# Altium footprint library eagle-ltspice.PCBLIB: 60 footprints (part 3 of 4)
Each footprint in its own frame and in the unit in brackets; x right, y up, seen from the top. Pads: shape width x height; smd on the part's side, far side on the other; paste and mask are expansions set on the pad; w line width, h text height; cw(c..) or ccw(c..) is an arc to the next point about the centre after c.
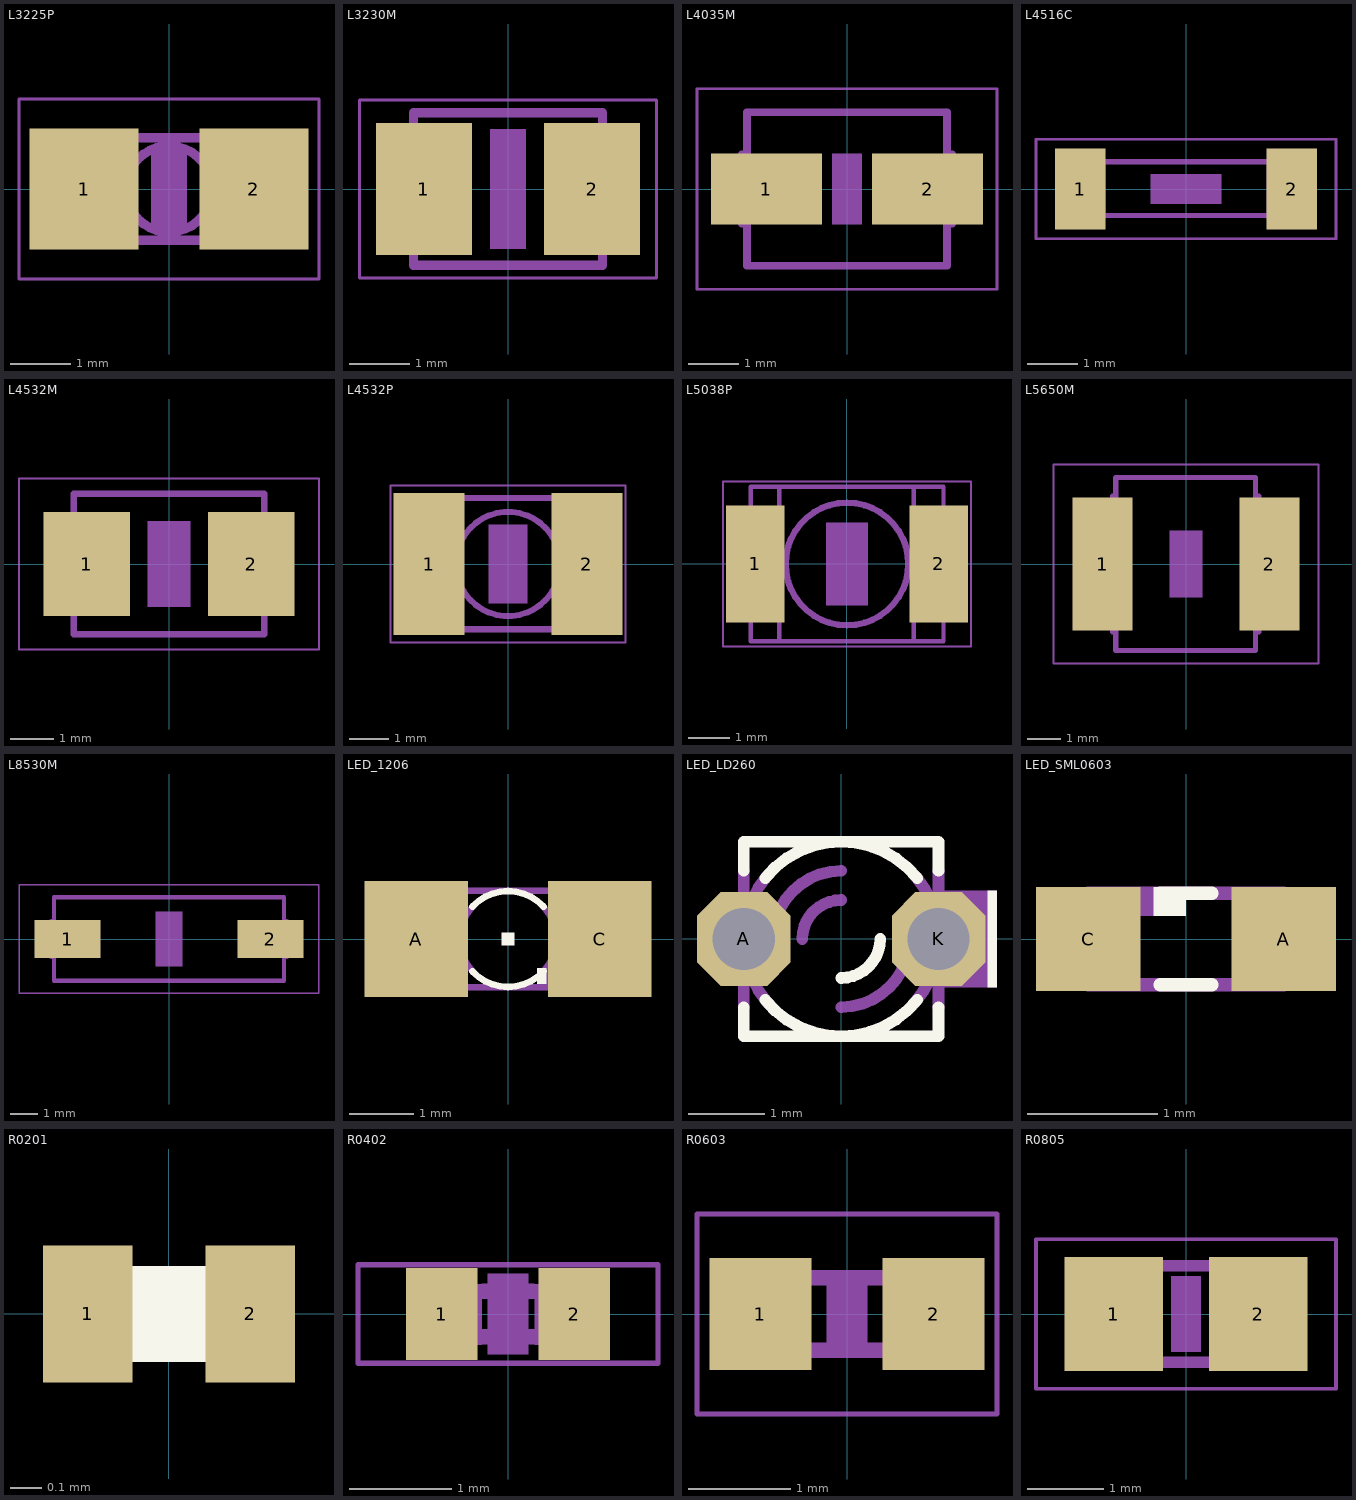
[diagram p2: the footprints below, top view; thin cyan lines are the x and y axes]

## L3225P [mm]
pads (2):
  rect 1.8x2 smd: 1(-1.4,0) 2(1.4,0)
Mechanical 6:
  rectangle: -0.3,-0.7 0.3,0.7
Mechanical 16:
  circle w0.152: c0,0 r0.712
  lines w0.152: -1.676,-0.845 1.676,-0.845 ; -1.676,-0.838 -1.676,0.838 ; -1.676,0.845 1.676,0.845 ; -1.168,-0.838 -1.168,0.838 ; 1.168,-0.838 1.168,0.838 ; 1.676,-0.838 1.676,0.838
Mechanical 27:
  lines w0.051: -2.473,-1.483 2.473,-1.483 2.473,1.483 -2.473,1.483 -2.473,-1.483

## L3230M [mm]
pads (2):
  rect 1.6x2.2 smd: 1(-1.4,0) 2(1.4,0)
Mechanical 6:
  rectangle: -0.3,-1 0.3,1
Mechanical 16:
  lines w0.152: -1.651,-0.94 -1.651,0.94 ; 1.651,-0.94 1.651,0.94 ; -1.575,-1.27 1.575,-1.27 1.575,1.27 -1.575,1.27 -1.575,-1.27
Mechanical 27:
  lines w0.051: -2.473,-1.483 2.473,-1.483 2.473,1.483 -2.473,1.483 -2.473,-1.483

## L4035M [mm]
pads (2):
  rect 2.2x1.4 smd: 1(-1.6,0) 2(1.6,0)
Mechanical 6:
  rectangle: -0.3,-0.7 0.3,0.7
Mechanical 16:
  lines w0.152: -2.083,-0.686 -2.083,0.686 ; 2.083,-0.686 2.083,0.686 ; -1.981,-1.524 -1.981,1.524 1.981,1.524 1.981,-1.524 -1.981,-1.524
Mechanical 27:
  lines w0.051: -2.973,-1.983 2.973,-1.983 2.973,1.983 -2.973,1.983 -2.973,-1.983

## L4516C [mm]
pads (2):
  rect 1x1.6 smd: 1(-2.1,0) 2(2.1,0)
Mechanical 6:
  rectangle: -0.7,-0.3 0.7,0.3
Mechanical 16:
  rectangle: -2.4,-0.597 -1.6,0.603
  rectangle: 1.6,-0.603 2.4,0.597
  lines w0.102: -1.626,-0.527 1.626,-0.527 ; -1.626,0.54 1.626,0.54
Mechanical 27:
  lines w0.051: -2.973,-0.983 2.973,-0.983 2.973,0.983 -2.973,0.983 -2.973,-0.983

## L4532M [mm]
pads (2):
  rect 2x2.4 smd: 1(-1.9,0) 2(1.9,0)
Mechanical 6:
  rectangle: -0.5,-1 0.5,1
Mechanical 16:
  lines w0.152: -2.337,-1.041 -2.337,1.041 ; 2.337,-1.041 2.337,1.041 ; -2.21,-1.626 2.21,-1.626 2.21,1.626 -2.21,1.626 -2.21,-1.626
Mechanical 27:
  lines w0.051: -3.473,-1.983 3.473,-1.983 3.473,1.983 -3.473,1.983 -3.473,-1.983

## L4532P [mm]
pads (2):
  rect 1.8x3.6 smd: 1(-2,0) 2(2,0)
Mechanical 6:
  rectangle: -0.5,-1 0.5,1
Mechanical 16:
  circle w0.152: c0,0 r1.321
  lines w0.152: -2.311,-1.653 2.311,-1.653 ; -2.311,-1.626 -2.311,1.626 ; -2.311,1.675 2.311,1.675 2.311,-1.626 ; -1.448,-1.626 -1.448,1.651 ; 1.448,-1.626 1.448,1.626
Mechanical 27:
  lines w0.051: -2.973,-1.983 2.973,-1.983 2.973,1.983 -2.973,1.983 -2.973,-1.983

## L5038P [mm]
pads (2):
  rect 1.4x2.8 smd: 1(-2.2,0) 2(2.2,0)
Mechanical 6:
  rectangle: -0.5,-1 0.5,1
Mechanical 16:
  circle w0.152: c0,0 r1.473
  lines w0.102: -2.386,-1.27 -2.386,1.27 ; -2.31,-1.854 -2.31,1.854 ; -2.286,-1.856 2.311,-1.856 ; -2.286,1.853 2.311,1.853 ; -1.624,-1.854 -1.624,1.854 ; 1.602,-1.854 1.602,1.854 ; 2.313,-1.854 2.313,1.854 ; 2.389,-1.27 2.389,1.27
Mechanical 27:
  lines w0.051: -2.973,-1.983 2.973,-1.983 2.973,1.983 -2.973,1.983 -2.973,-1.983

## L5650M [mm]
pads (2):
  rect 1.8x4 smd: 1(-2.5,0) 2(2.5,0)
Mechanical 6:
  rectangle: -0.5,-1 0.5,1
Mechanical 16:
  lines w0.152: -2.21,-2.032 -2.21,2.032 ; 2.184,-2.032 2.184,2.032 ; -2.108,-2.591 2.083,-2.591 2.083,2.591 -2.108,2.591 -2.108,-2.591
Mechanical 27:
  lines w0.051: -3.973,-2.983 3.973,-2.983 3.973,2.983 -3.973,2.983 -3.973,-2.983

## L8530M [mm]
pads (2):
  rect 2.4x1.4 smd: 1(-3.7,0) 2(3.7,0)
Mechanical 6:
  rectangle: -0.5,-1 0.5,1
Mechanical 16:
  lines w0.152: -4.293,-0.66 -4.293,0.66 ; 4.293,-0.66 4.293,0.66 ; -4.191,-1.524 -4.191,1.524 4.191,1.524 4.191,-1.524 -4.191,-1.524
Mechanical 27:
  lines w0.051: -5.473,-1.983 5.473,-1.983 5.473,1.983 -5.473,1.983 -5.473,-1.983

## LED_1206 [mm]
pads (2):
  rect 1.6x1.803 smd: A(-1.422,0) C(1.422,0)
Top Overlay:
  rectangle: -0.1,-0.1 0.1,0.1
  rectangle: 0.45,-0.7 0.6,-0.45
  lines w0.102: -0.55,-0.5 ccw(c0,0) 0.55,-0.5 ; -0.55,0.5 cw(c0,0) 0.55,0.5
Mechanical 16:
  rectangle: 0.45,-0.7 0.8,-0.45
  rectangle: 0.8,-0.7 0.9,0.5
  rectangle: 0.8,0.55 0.9,0.7
  rectangle: -0.9,-0.7 -0.8,0.5
  rectangle: -0.9,0.55 -0.8,0.7
  lines w0.102: -0.55,-0.5 cw(c0,0) -0.55,0.5 ; 0.55,-0.5 ccw(c0,0) 0.55,0.5 ; -1.55,-0.75 1.55,-0.75 1.55,0.75 -1.55,0.75 -1.55,-0.75

## LED_LD260 [mil]
pads (2):
  oct 48x48 hole 32: A(-50,0) K(50,0)
Top Overlay:
  rectangle: 75,-25 80,25
  lines w6: -50,-35 -50,-50 0,-50 ; -50,35 -50,50 0,50 ; -39.04,-31.24 ccw(c0,-0.01) 0,-50 ; -39.04,31.24 cw(c0,0.01) 0,50 ; 0,-20 ccw(c0,0) 20,0 ; 39.04,-31.24 cw(c0,-0.01) 0,-50 ; 39.04,31.24 ccw(c0,0.01) 0,50 ; 50,-35 50,-50 0,-50 ; 50,35 50,50 0,50
Mechanical 16:
  rectangle: 50,-25 80,25
  lines w6: -50,-35 -50,0 ; -50,35 -50,0 ; -37.96,-32.54 cw(c0,0) -50,0 ; -37.96,32.54 ccw(c0,0) -50,0 ; -35,0 cw(c0,0) 0,35 ; -20,0 cw(c0,0) 0,20 ; 0,-35 ccw(c0,0) 35,0 ; 37.63,-32.93 ccw(c-0.01,0) 50,0 ; 38.41,32.01 cw(c0,0) 50,0 ; 50,-35 50,0 ; 50,35 50,0

## LED_SML0603 [mil]
pads (2):
  rect 31.5x31.5 smd: A(29.53,0) C(-29.53,0)
Top Overlay:
  rectangle: -9.84,6.89 0,15.75
  lines w4: -7.87,-13.78 7.87,-13.78 ; -7.87,13.78 7.87,13.78
Mechanical 16:
  rectangle: -15.75,6.89 0,15.75
  lines w4: -17.72,-11.81 -17.72,11.81 ; 17.72,-11.81 17.72,11.81 ; -29.53,-13.78 29.53,-13.78 29.53,13.78 -29.53,13.78 -29.53,-13.78

## R0201 [mm]
pads (2):
  rect 0.28x0.43 smd: 1(-0.255,0) 2(0.255,0)
Top Overlay:
  rectangle: -0.15,-0.15 0.15,0.15
Mechanical 16:
  rectangle: -0.3,-0.15 -0.15,0.15
  rectangle: 0.15,-0.15 0.3,0.15

## R0402 [mm]
pads (2):
  rect 0.7x0.9 smd: 1(-0.65,0) 2(0.65,0)
Mechanical 6:
  rectangle: -0.2,-0.4 0.2,0.4
Mechanical 16:
  rectangle: -0.554,-0.305 -0.254,0.295
  rectangle: 0.259,-0.305 0.559,0.295
  lines w0.152: -0.245,-0.224 0.245,-0.224 ; -0.245,0.224 0.245,0.224
Mechanical 27:
  lines w0.051: -1.473,-0.483 1.473,-0.483 1.473,0.483 -1.473,0.483 -1.473,-0.483

## R0603 [mm]
pads (2):
  rect 1x1.1 smd: 1(-0.85,0) 2(0.85,0)
Mechanical 6:
  rectangle: -0.2,-0.4 0.2,0.4
Mechanical 16:
  rectangle: 0.432,-0.432 0.838,0.432
  rectangle: -0.838,-0.432 -0.432,0.432
  lines w0.152: -0.432,-0.356 0.432,-0.356 ; -0.432,0.356 0.432,0.356
Mechanical 27:
  lines w0.051: -1.473,-0.983 1.473,-0.983 1.473,0.983 -1.473,0.983 -1.473,-0.983

## R0805 [mm]
pads (2):
  rect 1.3x1.5 smd: 1(-0.95,0) 2(0.95,0)
Mechanical 6:
  rectangle: -0.2,-0.5 0.2,0.5
Mechanical 16:
  rectangle: 0.406,-0.699 1.056,0.702
  rectangle: -1.067,-0.699 -0.417,0.702
  lines w0.152: -0.41,-0.635 0.41,-0.635 ; -0.41,0.635 0.41,0.635
Mechanical 27:
  lines w0.051: -1.973,-0.983 1.973,-0.983 1.973,0.983 -1.973,0.983 -1.973,-0.983